# Altium footprint library CAPMP7343X430N.PcbLib: 1 footprints
Each footprint in its own frame and in the unit in brackets; x right, y up, seen from the top. Pads: shape width x height; smd on the part's side, far side on the other; paste and mask are expansions set on the pad; w line width, h text height; cw(c..) or ccw(c..) is an arc to the next point about the centre after c.
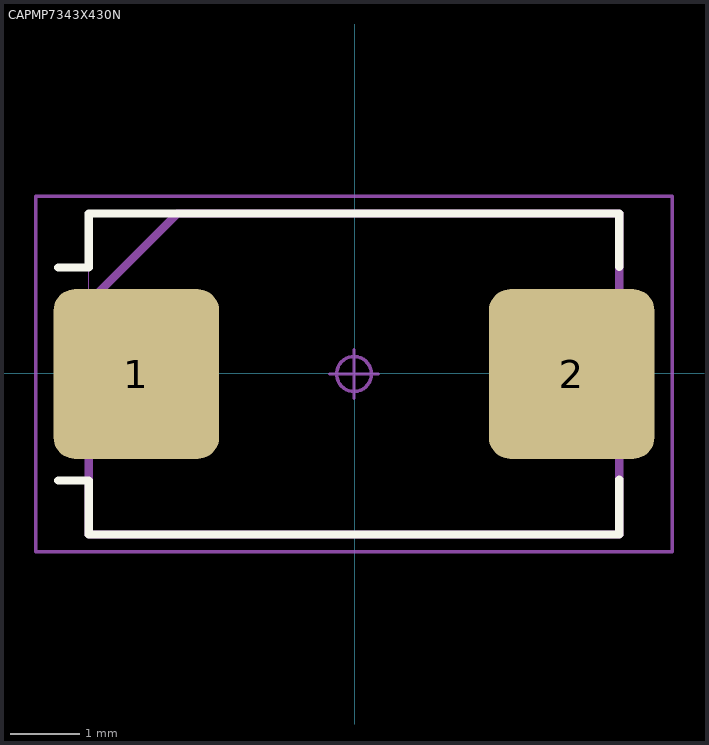
[diagram p0: the footprint, top view; thin cyan lines are the x and y axes]

## CAPMP7343X430N [mm]
pads (2):
  rrect25% 2.37x2.43 smd: 1(-3.133,-0.013) 2(3.107,-0.013)
Top Overlay:
  lines w0.12: -4.253,-1.54 -3.813,-1.54 -3.813,-2.313 3.787,-2.313 3.787,-1.524 ; -4.253,1.514 -3.813,1.514 -3.813,2.287 3.787,2.287 3.787,1.524
Mechanical 13:
  lines w0.001: -3.813,-2.313 3.787,-2.313 3.787,2.287 -3.813,2.287 -3.813,-2.313
  lines w0.12: -3.813,-2.313 3.787,-2.313 3.787,2.287 -2.543,2.287 -3.813,1.017 -3.813,-2.313
Mechanical 15:
  circle w0.05: c-0.013,-0.013 r0.25
  lines w0.05: -0.363,-0.013 0.337,-0.013 ; -0.013,-0.363 -0.013,0.337 ; -4.573,-2.563 4.547,-2.563 4.547,2.537 -4.573,2.537 -4.573,-2.563
3D body "User Library-AVX_D_CASE.STEP": height 3.01, standoff 0, extent -3.7,-2.225 3.7,2.225